# Altium schematic symbol library Capacitor_1210_10_percent.SchLib: 1 symbol
Pins are listed as number, name and electrical type; pins without a type are passive.

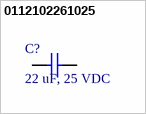
[diagram p0: symbol 0112102261025]

## 0112102261025
designator C?, comment 22 uF, 25 VDC
CAP, size 1210, 22 uF, 25 VDC, 10%; Manufacturer: Samsung Electro-Mechanics; Manufacturer Part Number: CL32B226KAJNNNE; Capacitance: 22 uF; Tolerance: +/-10%; Voltage Rating DC: 25 VDC; ComponentLink1Description: Datasheet; ComponentLink1URL: https://product.tdk.com/system/files/dam/doc/product/capacitor/ceramic/mlcc/catalog/mlcc_automotive_hightemp_en.pdf?ref_disty=mouser; LCSC Part #: C309062; Mount: SMD/SMT; Operating Temperature Max: + 125 C; Operating Temperature Min: - 55 C; Package / Case: 1210; Packaging: Tape and Reel; Supplier 1: Mouser; Supplier 1 Part Number: 187-CL32B226KAJNNNE; Supplier 1 URL: https://www.mouser.com/ProductDetail/Samsung-Electro-Mechanics/CL32B226KAJNNNE?qs=349EhDEZ59oxUqah7LWaWw%3D%3D; Supplier 2: Digi-Key; Supplier 2 Part Number: 1276-3392-2-ND; Supplier 2 URL: https://www.digikey.com/en/products/detail/samsung-electro-mechanics/cl32b226kajnnne/3889050; Supplier 3: thegioiic; Supplier 3 Part Number: N/A; Supplier 3 URL: N/A; Value: 22 uF, 25 VDC
footprint CAP_1210 (Chip Capacitor, 2-Leads, Body 3.20x1.60mm, IPC Medium Density)
pins: 1, 2